# Altium footprint library GPS_Traking_V1_1.PcbLib: 54 footprints (part 4 of 4)
Each footprint in its own frame and in the unit in brackets; x right, y up, seen from the top. Pads: shape width x height; smd on the part's side, far side on the other; paste and mask are expansions set on the pad; w line width, h text height; cw(c..) or ccw(c..) is an arc to the next point about the centre after c.
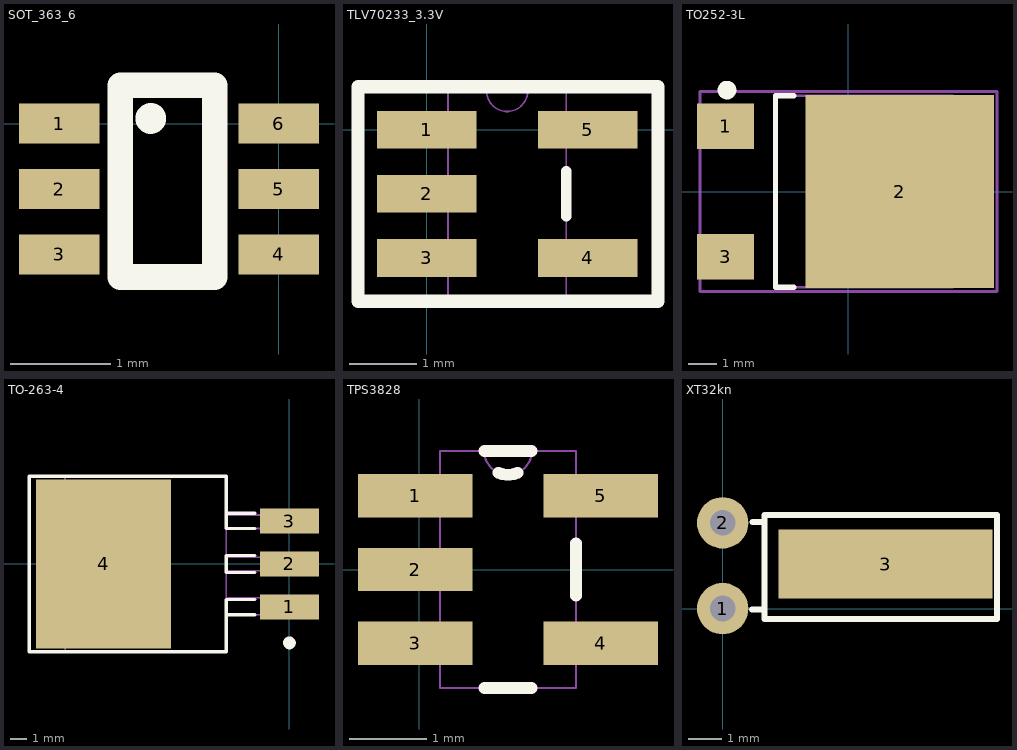
[diagram p3: the footprints below, top view; thin cyan lines are the x and y axes]

## SOT_363_6 [mm]
pads (6):
  rect 0.8x0.4 smd: 1(-2.179,0) 2(-2.179,-0.65) 3(-2.179,-1.3) 4(0,-1.3) 5(0,-0.65) 6(0,0)
Top Overlay:
  circle w0.254: c-1.27,0.051 r0.025
  lines w0.254: -1.575,-1.524 -1.575,0.381 -0.635,0.381 -0.635,-1.524 -1.575,-1.524
3D body: height 1.1, standoff 0, extent -2.292,-1.76 0.108,0.44

## TLV70233_3.3V [mil]
pads (5):
  rect 58x22 smd: 1(0,0) 2(0,-37.4) 3(0,-74.8) 4(94,-74.8) 5(94,0)
Top Overlay:
  lines w6: 81.5,-50.7 81.5,-24.1
  lines w7.87: -40,-100 -40,25 135,25 135,-100 -40,-100
Mechanical 1:
  lines w1: 35,22.6 ccw(c47,22.6) 59,22.6 ; -12,-84.8 12.5,-84.8 12.5,-64.8 -12,-64.8 -12,-84.8 ; -12,-47.4 12.5,-47.4 12.5,-27.4 -12,-27.4 -12,-47.4 ; -12,-10 12.5,-10 12.5,10 -12,10 -12,-10 ; 12.5,-97.4 12.5,22.6 81.5,22.6 81.5,-97.4 12.5,-97.4 ; 81.5,-84.8 106,-84.8 106,-64.8 81.5,-64.8 81.5,-84.8 ; 81.5,-10 106,-10 106,10 81.5,10 81.5,-10
3D body "mf05a.stp": height 41, standoff -2, extent -9.99,-94.91 102.01,20.09

## TO252-3L [mm]
pads (3):
  rect 2x1.6 smd: 1(-4.3,2.28) 3(-4.3,-2.28)
  rect 6.6x6.75 smd: 2(1.8,0)
Top Overlay:
  circle w0.4: c-4.25,3.55 r0.125
  lines w0.178: -1.9,-3.35 -2.55,-3.35 -2.55,3.35 -1.9,3.35
Mechanical 13:
  lines w0.1: -2.55,-3.35 3.65,-3.35 3.65,3.35 -2.55,3.35
  lines w0.178: -2.55,-3.35 -2.55,3.35
Mechanical 15:
  lines w0.1: -0.5,0 0.5,0 ; 0,-0.5 0,0.5 ; -5.2,-3.5 5.2,-3.5 5.2,3.5 -5.2,3.5 -5.2,-3.5
3D body "DPAK-1 TO252.step": height 2.34, standoff -0.07, extent -4.911,-3.27 5.028,3.27

## TO-263-4 [mm]
pads (4):
  rect 3.5x1.5 smd: 1(0,-2.54) 2(0,0) 3(0,2.54)
  rect 8x10 smd: 4(-11,0)
Top Overlay:
  circle w0.5: c0,-4.67 r0.125
  lines w0.2: -2.036,-3 -3.738,-3 ; -2.036,-2.1 -3.738,-2.1 -3.738,-3 ; -2.036,-0.5 -3.738,-0.5 -3.738,0.5 -2.036,0.5 ; -2.036,2.1 -3.738,2.1 -3.738,3 ; -2.036,3 -3.738,3 ; -3.738,-3 -3.738,-5.2 -15.4,-5.2 -15.4,5.2 -3.738,5.2 -3.738,3
Mechanical 1:
  lines w0.1: -13.638,-3.3 -13.237,-5.2 -3.738,-5.2 -3.738,-3 0.663,-3 0.663,-2 -3.738,-2 -3.738,-0.4 0.663,-0.4 0.663,0.4 -3.738,0.4 -3.738,2.1 0.663,2.1 0.663,2.9 -3.738,2.9 -3.738,5.2 -13.237,5.2 -13.638,3.6 -13.638,-3.3
3D body "SW3dPS-TO263-3.STEP": height 4.78, standoff -0.02, extent -13.97,-5 1.7,5

## TPS3828 [mil]
pads (5):
  rect 58x22 smd: 1(-2,37.4) 2(-2,0) 3(-2,-37.4) 4(92,-37.4) 5(92,37.4)
Top Overlay:
  lines w6: 33.09,-60 56.91,-60 ; 33.09,60 56.91,60 ; 40.08,49.05 ccw(c45,60) 49.92,49.05 ; 79.5,-13.3 79.5,13.3
Mechanical 1:
  lines w1: 33,60 ccw(c45,60) 57,60 ; -14,-47.4 10.5,-47.4 10.5,-27.4 -14,-27.4 -14,-47.4 ; -14,-10 10.5,-10 10.5,10 -14,10 -14,-10 ; -14,27.4 10.5,27.4 10.5,47.4 -14,47.4 -14,27.4 ; 10.5,-60 10.5,60 79.5,60 79.5,-60 10.5,-60 ; 79.5,-47.4 104,-47.4 104,-27.4 79.5,-27.4 79.5,-47.4 ; 79.5,27.4 104,27.4 104,47.4 79.5,47.4 79.5,27.4
3D body "mf05a.stp": height 50.37, standoff 7.37, extent -16,-57.51 96,57.49

## XT32kn [mil]
pads (3):
  round 60 hole 30: 1(0,0) 2(0,100)
  rect 250x80 smd: 3(190,52)
Top Overlay:
  lines w7: 34,-1 49,-1 ; 35,101 49,101 ; 49,101 49,-12 320,-12 320,109 49,109 49,101
3D body "Crystal32K-KX-26.STEP": height 76.77, standoff -78.74, extent -9.7,4.73 319.04,95.28